# Altium integrated library Analog_Devices_Power_Management_Linear_Regulators.IntLib: 441 symbols (part 19 of 23)
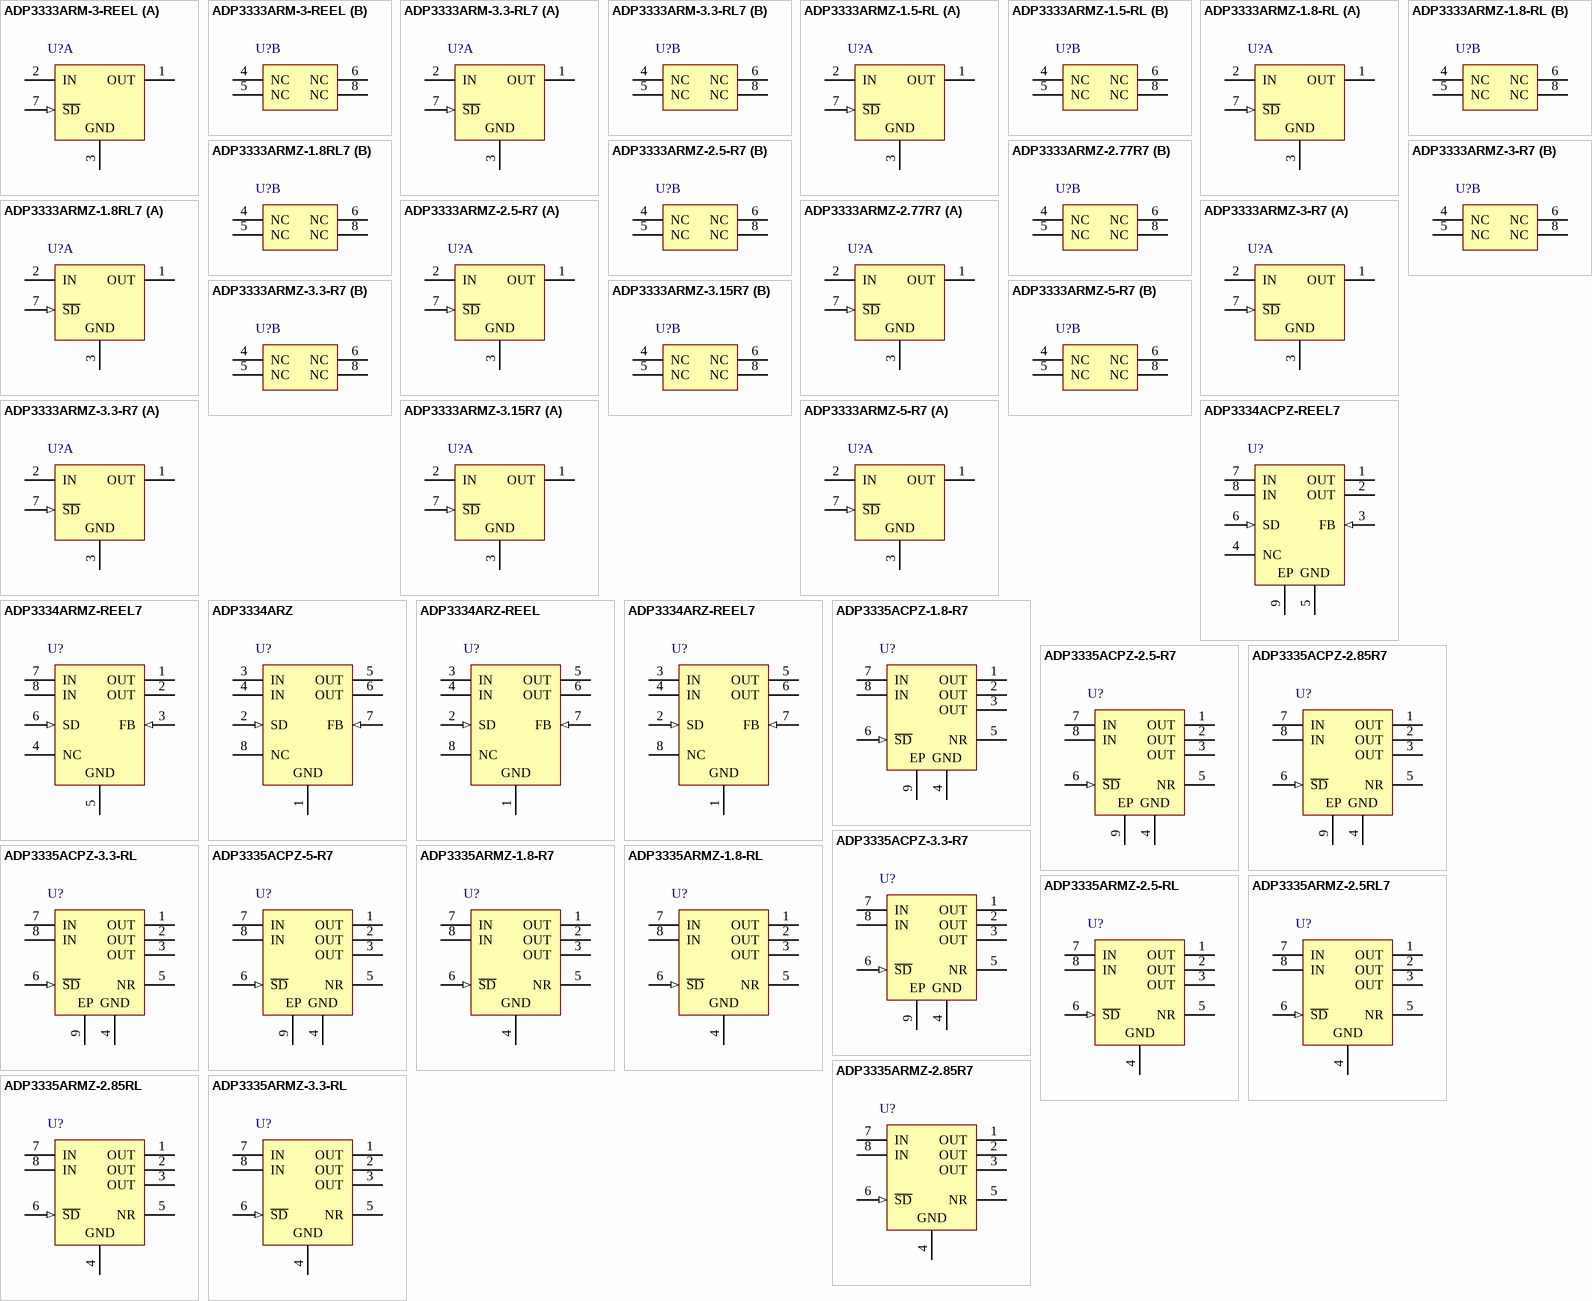
[diagram p29: symbols ADP3333ARM-3-REEL to ADP3335ARMZ-3.3-RL]

## ADP3333ARMZ-2.77R7
designator U?
High Accuracy Ultralow IQ, 300 mA, anyCAP Low Dropout Regulator, 2.6 to 12 V Vin, 2.77 V Vout, Industrial, 8-pin SOP (RM-8), Reel; Manufacturer: Analog Devices; PartNumber: ADP3333ARMZ-2.77R7; Iout max: 300mA; Preset Vout Values (V): 2.77; Supply Current IGND @ Small Load: 70uA; Vin (max) (V): 12; Vin (min) (V): 2.6; DatasheetVersion: Rev. B; PackageVersion: Aug-05; PackageReference: RM-8; PackageDescription: 8-Pin Mini Small Outline Package, Body 3 x 3 mm, Pitch 0.65 mm; Supplier 1: Digi-Key; Supplier Part Number 1: ADP3333ARMZ-2.77R7TR-ND; Supplier 2: Digi-Key; Supplier Part Number 2: ADP3333ARMZ-2.77R7CT-ND; Supplier 3: Digi-Key; Supplier Part Number 3: ADP3333ARMZ-2.77R7DKR-ND; Supplier 4: Mouser; Supplier Part Number 4: 584-AP3333ARMZ2.77R7; Packing: Reel; Mounting Technology: Surface Mount; Code_JEDEC: MO-187-AA; ComponentLink1Description: Manufacturer URL; ComponentLink1URL: http://www.analog.com/en/index.html; ComponentLink2Description: Datasheet; ComponentLink2URL: http://www.analog.com/static/imported-files/data_sheets/ADP3333.pdf; ComponentLink3Description: Package Specification; ComponentLink3URL: http://www.analog.com/static/imported-files/packages/PKG_PDF/MSOP%28RM%29/RM_8.pdf; ComponentLink4Description: URL Link1; ComponentLink4URL: Product URL:http://www.analog.com/en/ADP3333/productSearch.html
footprint ADI-RM-8_N (SOP, 8-Leads, Body 3x3mm, Pitch 0.65mm, IPC Medium Density)
footprint ADI-RM-8_L (SOP, 8-Leads, Body 3x3mm, Pitch 0.65mm, IPC High Density)
footprint ADI-RM-8_M (SOP, 8-Leads, Body 3x3mm, Pitch 0.65mm, IPC Low Density)
part A pins: 1 OUT (power) "Output of the Regulator. Bypass to ground with a 1.0 uF or larger capacitor.", 2 IN (power) "Input Pin. Bypass to ground with a 1.0 uF or larger capacitor.", 3 GND (power) "Ground Pin.", 7 ~{SD} (in) "Active Low Shutdown Pin. Connect to ground to disable the regulator output. When shutdown is not used, connect this pin to the IN pin."
part B pins: 4 NC "No Connect. Best thermal performance is achieved when the NC pins are connected to the GND plane.", 5 NC "No Connect. Best thermal performance is achieved when the NC pins are connected to the GND plane.", 6 NC "No Connect. Best thermal performance is achieved when the NC pins are connected to the GND plane.", 8 NC "No Connect. Best thermal performance is achieved when the NC pins are connected to the GND plane."

## ADP3333ARMZ-3-R7
designator U?
High Accuracy Ultralow IQ, 300 mA, anyCAP Low Dropout Regulator, 2.6 to 12 V Vin, 3 V Vout, Industrial, 8-pin SOP (RM-8), Reel; Manufacturer: Analog Devices; PartNumber: ADP3333ARMZ-3-R7; Iout max: 300mA; Preset Vout Values (V): 3; Supply Current IGND @ Small Load: 70uA; Vin (max) (V): 12; Vin (min) (V): 2.6; DatasheetVersion: Rev. B; PackageVersion: Aug-05; PackageReference: RM-8; PackageDescription: 8-Pin Mini Small Outline Package, Body 3 x 3 mm, Pitch 0.65 mm; Supplier 1: Mouser; Supplier Part Number 1: 584-ADP3333ARMZ-3-R7; Packing: Reel; Mounting Technology: Surface Mount; Code_JEDEC: MO-187-AA; ComponentLink1Description: Manufacturer URL; ComponentLink1URL: http://www.analog.com/en/index.html; ComponentLink2Description: Datasheet; ComponentLink2URL: http://www.analog.com/static/imported-files/data_sheets/ADP3333.pdf; ComponentLink3Description: Package Specification; ComponentLink3URL: http://www.analog.com/static/imported-files/packages/PKG_PDF/MSOP%28RM%29/RM_8.pdf; ComponentLink4Description: URL Link1; ComponentLink4URL: Product URL:http://www.analog.com/en/ADP3333/productSearch.html
footprint ADI-RM-8_N (SOP, 8-Leads, Body 3x3mm, Pitch 0.65mm, IPC Medium Density)
footprint ADI-RM-8_L (SOP, 8-Leads, Body 3x3mm, Pitch 0.65mm, IPC High Density)
footprint ADI-RM-8_M (SOP, 8-Leads, Body 3x3mm, Pitch 0.65mm, IPC Low Density)
part A pins: 1 OUT (power) "Output of the Regulator. Bypass to ground with a 1.0 uF or larger capacitor.", 2 IN (power) "Input Pin. Bypass to ground with a 1.0 uF or larger capacitor.", 3 GND (power) "Ground Pin.", 7 ~{SD} (in) "Active Low Shutdown Pin. Connect to ground to disable the regulator output. When shutdown is not used, connect this pin to the IN pin."
part B pins: 4 NC "No Connect. Best thermal performance is achieved when the NC pins are connected to the GND plane.", 5 NC "No Connect. Best thermal performance is achieved when the NC pins are connected to the GND plane.", 6 NC "No Connect. Best thermal performance is achieved when the NC pins are connected to the GND plane.", 8 NC "No Connect. Best thermal performance is achieved when the NC pins are connected to the GND plane."

## ADP3333ARMZ-3.3-R7
designator U?
High Accuracy Ultralow IQ, 300 mA, anyCAP Low Dropout Regulator, 2.6 to 12 V Vin, 3.3 V Vout, Industrial, 8-pin SOP (RM-8), Reel; Manufacturer: Analog Devices; PartNumber: ADP3333ARMZ-3.3-R7; Iout max: 300mA; Preset Vout Values (V): 3.3; Supply Current IGND @ Small Load: 70uA; Vin (max) (V): 12; Vin (min) (V): 2.6; DatasheetVersion: Rev. B; PackageVersion: Aug-05; PackageReference: RM-8; PackageDescription: 8-Pin Mini Small Outline Package, Body 3 x 3 mm, Pitch 0.65 mm; Supplier 1: Digi-Key; Supplier Part Number 1: ADP3333ARMZ-3.3-R7TR-ND; Supplier 2: Digi-Key; Supplier Part Number 2: ADP3333ARMZ-3.3-R7CT-ND; Supplier 3: Digi-Key; Supplier Part Number 3: ADP3333ARMZ-3.3-R7DKR-ND; Supplier 4: Farnell; Supplier Part Number 4: 2074872; Supplier 5: Farnell; Supplier Part Number 5: 2074872RL; Supplier 6: Newark; Supplier Part Number 6: 61M3992; Supplier 7: Newark; Supplier Part Number 7: 67W2712; Supplier 8: Mouser; Supplier Part Number 8: 584-ADP3333ARMZ3.3R7; Packing: Reel; Mounting Technology: Surface Mount; Code_JEDEC: MO-187-AA; ComponentLink1Description: Manufacturer URL; ComponentLink1URL: http://www.analog.com/en/index.html; ComponentLink2Description: Datasheet; ComponentLink2URL: http://www.analog.com/static/imported-files/data_sheets/ADP3333.pdf; ComponentLink3Description: Package Specification; ComponentLink3URL: http://www.analog.com/static/imported-files/packages/PKG_PDF/MSOP%28RM%29/RM_8.pdf; ComponentLink4Description: URL Link1; ComponentLink4URL: Product URL:http://www.analog.com/en/ADP3333/productSearch.html
footprint ADI-RM-8_N (SOP, 8-Leads, Body 3x3mm, Pitch 0.65mm, IPC Medium Density)
footprint ADI-RM-8_L (SOP, 8-Leads, Body 3x3mm, Pitch 0.65mm, IPC High Density)
footprint ADI-RM-8_M (SOP, 8-Leads, Body 3x3mm, Pitch 0.65mm, IPC Low Density)
part A pins: 1 OUT (power) "Output of the Regulator. Bypass to ground with a 1.0 uF or larger capacitor.", 2 IN (power) "Input Pin. Bypass to ground with a 1.0 uF or larger capacitor.", 3 GND (power) "Ground Pin.", 7 ~{SD} (in) "Active Low Shutdown Pin. Connect to ground to disable the regulator output. When shutdown is not used, connect this pin to the IN pin."
part B pins: 4 NC "No Connect. Best thermal performance is achieved when the NC pins are connected to the GND plane.", 5 NC "No Connect. Best thermal performance is achieved when the NC pins are connected to the GND plane.", 6 NC "No Connect. Best thermal performance is achieved when the NC pins are connected to the GND plane.", 8 NC "No Connect. Best thermal performance is achieved when the NC pins are connected to the GND plane."

## ADP3333ARMZ-3.15R7
designator U?
High Accuracy Ultralow IQ, 300 mA, anyCAP Low Dropout Regulator, 2.6 to 12 V Vin, 3.15 V Vout, Industrial, 8-pin SOP (RM-8), Reel; Manufacturer: Analog Devices; PartNumber: ADP3333ARMZ-3.15R7; Iout max: 300mA; Preset Vout Values (V): 3.15; Supply Current IGND @ Small Load: 70uA; Vin (max) (V): 12; Vin (min) (V): 2.6; DatasheetVersion: Rev. B; PackageVersion: Aug-05; PackageReference: RM-8; PackageDescription: 8-Pin Mini Small Outline Package, Body 3 x 3 mm, Pitch 0.65 mm; Supplier 1: Digi-Key; Supplier Part Number 1: ADP3333ARMZ-3.15R7TR-ND; Supplier 2: Digi-Key; Supplier Part Number 2: ADP3333ARMZ-3.15R7CT-ND; Supplier 3: Digi-Key; Supplier Part Number 3: ADP3333ARMZ-3.15R7DKR-ND; Supplier 4: Mouser; Supplier Part Number 4: 584-AP3333ARMZ3.15R7; Packing: Reel; Mounting Technology: Surface Mount; Code_JEDEC: MO-187-AA; ComponentLink1Description: Manufacturer URL; ComponentLink1URL: http://www.analog.com/en/index.html; ComponentLink2Description: Datasheet; ComponentLink2URL: http://www.analog.com/static/imported-files/data_sheets/ADP3333.pdf; ComponentLink3Description: Package Specification; ComponentLink3URL: http://www.analog.com/static/imported-files/packages/PKG_PDF/MSOP%28RM%29/RM_8.pdf; ComponentLink4Description: URL Link1; ComponentLink4URL: Product URL:http://www.analog.com/en/ADP3333/productSearch.html
footprint ADI-RM-8_N (SOP, 8-Leads, Body 3x3mm, Pitch 0.65mm, IPC Medium Density)
footprint ADI-RM-8_L (SOP, 8-Leads, Body 3x3mm, Pitch 0.65mm, IPC High Density)
footprint ADI-RM-8_M (SOP, 8-Leads, Body 3x3mm, Pitch 0.65mm, IPC Low Density)
part A pins: 1 OUT (power) "Output of the Regulator. Bypass to ground with a 1.0 uF or larger capacitor.", 2 IN (power) "Input Pin. Bypass to ground with a 1.0 uF or larger capacitor.", 3 GND (power) "Ground Pin.", 7 ~{SD} (in) "Active Low Shutdown Pin. Connect to ground to disable the regulator output. When shutdown is not used, connect this pin to the IN pin."
part B pins: 4 NC "No Connect. Best thermal performance is achieved when the NC pins are connected to the GND plane.", 5 NC "No Connect. Best thermal performance is achieved when the NC pins are connected to the GND plane.", 6 NC "No Connect. Best thermal performance is achieved when the NC pins are connected to the GND plane.", 8 NC "No Connect. Best thermal performance is achieved when the NC pins are connected to the GND plane."

## ADP3333ARMZ-5-R7
designator U?
High Accuracy Ultralow IQ, 300 mA, anyCAP Low Dropout Regulator, 2.6 to 12 V Vin, 5 V Vout, Industrial, 8-pin SOP (RM-8), Reel; Manufacturer: Analog Devices; PartNumber: ADP3333ARMZ-5-R7; Iout max: 300mA; Preset Vout Values (V): 5; Supply Current IGND @ Small Load: 70uA; Vin (max) (V): 12; Vin (min) (V): 2.6; DatasheetVersion: Rev. B; PackageVersion: Aug-05; PackageReference: RM-8; PackageDescription: 8-Pin Mini Small Outline Package, Body 3 x 3 mm, Pitch 0.65 mm; Supplier 1: Digi-Key; Supplier Part Number 1: ADP3333ARMZ-5-R7TR-ND; Supplier 2: Digi-Key; Supplier Part Number 2: ADP3333ARMZ-5-R7CT-ND; Supplier 3: Digi-Key; Supplier Part Number 3: ADP3333ARMZ-5-R7DKR-ND; Supplier 4: Farnell; Supplier Part Number 4: 2376930; Supplier 5: Farnell; Supplier Part Number 5: 2312898; Supplier 6: Newark; Supplier Part Number 6: 61M3994; Supplier 7: Newark; Supplier Part Number 7: 67W2713; Supplier 8: Mouser; Supplier Part Number 8: 584-ADP3333ARMZ-5-R7; Packing: Reel; Mounting Technology: Surface Mount; Code_JEDEC: MO-187-AA; ComponentLink1Description: Manufacturer URL; ComponentLink1URL: http://www.analog.com/en/index.html; ComponentLink2Description: Datasheet; ComponentLink2URL: http://www.analog.com/static/imported-files/data_sheets/ADP3333.pdf; ComponentLink3Description: Package Specification; ComponentLink3URL: http://www.analog.com/static/imported-files/packages/PKG_PDF/MSOP%28RM%29/RM_8.pdf; ComponentLink4Description: URL Link1; ComponentLink4URL: Product URL:http://www.analog.com/en/ADP3333/productSearch.html
footprint ADI-RM-8_N (SOP, 8-Leads, Body 3x3mm, Pitch 0.65mm, IPC Medium Density)
footprint ADI-RM-8_L (SOP, 8-Leads, Body 3x3mm, Pitch 0.65mm, IPC High Density)
footprint ADI-RM-8_M (SOP, 8-Leads, Body 3x3mm, Pitch 0.65mm, IPC Low Density)
part A pins: 1 OUT (power) "Output of the Regulator. Bypass to ground with a 1.0 uF or larger capacitor.", 2 IN (power) "Input Pin. Bypass to ground with a 1.0 uF or larger capacitor.", 3 GND (power) "Ground Pin.", 7 ~{SD} (in) "Active Low Shutdown Pin. Connect to ground to disable the regulator output. When shutdown is not used, connect this pin to the IN pin."
part B pins: 4 NC "No Connect. Best thermal performance is achieved when the NC pins are connected to the GND plane.", 5 NC "No Connect. Best thermal performance is achieved when the NC pins are connected to the GND plane.", 6 NC "No Connect. Best thermal performance is achieved when the NC pins are connected to the GND plane.", 8 NC "No Connect. Best thermal performance is achieved when the NC pins are connected to the GND plane."

## ADP3334ACPZ-REEL7
designator U?
High Accuracy, Low IQ, anyCAP Adjustable Low Dropout Regulator, 2.6 to 11 V Vin, 1.5 to 10 V Vout, Industrial, 8-pin QFN (CP-8-2), Reel; Manufacturer: Analog Devices; PartNumber: ADP3334ACPZ-REEL7; Iout max: 500mA; Supply Current IGND @ Small Load: 90uA; Vin (max) (V): 11; Vin (min) (V): 2.6; Vout Adjustable Range: 1.5 V to 10 V; DatasheetVersion: Rev. B; PackageVersion: 061507-B, 06/2007; PackageReference: CP-8-2; PackageDescription: 8-Pin Lead Frame Chip Scale Package, Body 3 x 3 mm, Pitch 0.5 mm; Supplier 1: Digi-Key; Supplier Part Number 1: ADP3334ACPZ-REEL7TR-ND; Supplier 2: Digi-Key; Supplier Part Number 2: ADP3334ACPZ-REEL7CT-ND; Supplier 3: Digi-Key; Supplier Part Number 3: ADP3334ACPZ-REEL7DKR-ND; Supplier 4: Farnell; Supplier Part Number 4: 2376931; Supplier 5: Farnell; Supplier Part Number 5: 2370357; Supplier 6: Farnell; Supplier Part Number 6: 2312899; Supplier 7: Newark; Supplier Part Number 7: 59K2598; Supplier 8: Newark; Supplier Part Number 8: 67W2714; Supplier 9: Mouser; Supplier Part Number 9: 584-ADP3334ACPZ-R7; Packing: Reel; Mounting Technology: Surface Mount; ComponentLink1Description: Manufacturer URL; ComponentLink1URL: http://www.analog.com/en/index.html; ComponentLink2Description: Datasheet; ComponentLink2URL: http://www.analog.com/static/imported-files/data_sheets/ADP3334.pdf; ComponentLink3Description: Package Specification; ComponentLink3URL: http://www.analog.com/static/imported-files/packages/56953322593982CP_8_2.pdf; ComponentLink4Description: URL Link1; ComponentLink4URL: Product URL:http://www.analog.com/en/ADP3334/productSearch.html
footprint ADI-CP-8-2_N (QFN, 8-Leads, Body 3x3mm, Pitch 0.5mm, Thermal Pad 1.45X1.74mm, IPC Medium Density)
footprint ADI-CP-8-2_L (QFN, 8-Leads, Body 3x3mm, Pitch 0.5mm, Thermal Pad 1.45X1.74mm, IPC High Density)
footprint ADI-CP-8-2_M (QFN, 8-Leads, Body 3x3mm, Pitch 0.5mm, Thermal Pad 1.45X1.74mm, IPC Low Density)
pins: 1 OUT (power) "Output. Bypass to ground with a 1.0 uF or larger capacitor.", 2 OUT (power) "Output. Bypass to ground with a 1.0 uF or larger capacitor.", 3 FB (in) "Feedback Input. FB should be connected to an external resistor divider that sets the output voltage.", 4 NC "No Connection.", 5 GND (power) "Ground Pin.", 6 SD (in) "Shutdown Control. Pulling this pin low turns on the regulator.", 7 IN (power) "Regulator Input.", 8 IN (power) "Regulator Input.", 9 EP "Exposed Pad."

## ADP3334ARMZ-REEL7
designator U?
High Accuracy, Low IQ, anyCAP Adjustable Low Dropout Regulator, 2.6 to 11 V Vin, 1.5 to 10 V Vout, Industrial, 8-pin SOP (RM-8), Reel; Manufacturer: Analog Devices; PartNumber: ADP3334ARMZ-REEL7; Iout max: 500mA; Supply Current IGND @ Small Load: 90uA; Vin (max) (V): 11; Vin (min) (V): 2.6; Vout Adjustable Range: 1.5 V to 10 V; DatasheetVersion: Rev. B; PackageVersion: Aug-05; PackageReference: RM-8; PackageDescription: 8-Pin Mini Small Outline Package, Body 3 x 3 mm, Pitch 0.65 mm; Supplier 1: Digi-Key; Supplier Part Number 1: ADP3334ARMZ-REEL7TR-ND; Supplier 2: Digi-Key; Supplier Part Number 2: ADP3334ARMZ-REEL7CT-ND; Supplier 3: Digi-Key; Supplier Part Number 3: ADP3334ARMZ-REEL7DKR-ND; Supplier 4: Newark; Supplier Part Number 4: 59K2599; Supplier 5: Mouser; Supplier Part Number 5: 584-ADP3334ARMZ-R7; Packing: Reel; Mounting Technology: Surface Mount; Code_JEDEC: MO-187-AA; ComponentLink1Description: Manufacturer URL; ComponentLink1URL: http://www.analog.com/en/index.html; ComponentLink2Description: Datasheet; ComponentLink2URL: http://www.analog.com/static/imported-files/data_sheets/ADP3334.pdf; ComponentLink3Description: Package Specification; ComponentLink3URL: http://www.analog.com/static/imported-files/packages/PKG_PDF/MSOP%28RM%29/RM_8.pdf; ComponentLink4Description: URL Link1; ComponentLink4URL: Product URL:http://www.analog.com/en/ADP3334/productSearch.html
footprint ADI-RM-8_N (SOP, 8-Leads, Body 3x3mm, Pitch 0.65mm, IPC Medium Density)
footprint ADI-RM-8_L (SOP, 8-Leads, Body 3x3mm, Pitch 0.65mm, IPC High Density)
footprint ADI-RM-8_M (SOP, 8-Leads, Body 3x3mm, Pitch 0.65mm, IPC Low Density)
pins: 1 OUT (power) "Output. Bypass to ground with a 1.0 uF or larger capacitor.", 2 OUT (power) "Output. Bypass to ground with a 1.0 uF or larger capacitor.", 3 FB (in) "Feedback Input. FB should be connected to an external resistor divider that sets the output voltage.", 4 NC "No Connection.", 5 GND (power) "Ground Pin.", 6 SD (in) "Shutdown Control. Pulling this pin low turns on the regulator.", 7 IN (power) "Regulator Input.", 8 IN (power) "Regulator Input."

## ADP3334ARZ
designator U?
High Accuracy, Low IQ, anyCAP Adjustable Low Dropout Regulator, 2.6 to 11 V Vin, 1.5 to 10 V Vout, Industrial, 8-pin SOIC (R-8), Tube; Manufacturer: Analog Devices; PartNumber: ADP3334ARZ; Iout max: 500mA; Supply Current IGND @ Small Load: 90uA; Vin (max) (V): 11; Vin (min) (V): 2.6; Vout Adjustable Range: 1.5 V to 10 V; DatasheetVersion: Rev. B; PackageVersion: 060506-A, 06/2006; PackageReference: R-8; PackageDescription: 8-Pin Standard Small Outline Package, Body 4.9 x 3.9 mm, Pitch 1.27 mm; Supplier 1: Digi-Key; Supplier Part Number 1: ADP3334ARZ-ND; Supplier 2: Farnell; Supplier Part Number 2: 1661069; Supplier 3: Newark; Supplier Part Number 3: 19M8718; Supplier 4: Mouser; Supplier Part Number 4: 584-ADP3334ARZ; Packing: Tube; Mounting Technology: Surface Mount; Code_JEDEC: MS-012-AA; ComponentLink1Description: Manufacturer URL; ComponentLink1URL: http://www.analog.com/en/index.html; ComponentLink2Description: Datasheet; ComponentLink2URL: http://www.analog.com/static/imported-files/data_sheets/ADP3334.pdf; ComponentLink3Description: Package Specification; ComponentLink3URL: http://www.analog.com/static/imported-files/packages/PKG_PDF/SOIC_Narrow%20(R)/R_8.pdf; ComponentLink4Description: URL Link1; ComponentLink4URL: Product URL:http://www.analog.com/en/ADP3334/productSearch.html
footprint ADI-R-8_N (SOIC, 8-Leads, Body 4.9x3.9mm, Pitch 1.27mm, IPC Medium Density)
footprint ADI-R-8_L (SOIC, 8-Leads, Body 4.9x3.9mm, Pitch 1.27mm, IPC High Density)
footprint ADI-R-8_M (SOIC, 8-Leads, Body 4.9x3.9mm, Pitch 1.27mm, IPC Low Density)
pins: 1 GND (power) "Ground Pin.", 2 SD (in) "Shutdown Control. Pulling this pin low turns on the regulator.", 3 IN (power) "Regulator Input.", 4 IN (power) "Regulator Input.", 5 OUT (power) "Output. Bypass to ground with a 1.0 uF or larger capacitor.", 6 OUT (power) "Output. Bypass to ground with a 1.0 uF or larger capacitor.", 7 FB (in) "Feedback Input. FB should be connected to an external resistor divider that sets the output voltage.", 8 NC "No Connection."

## ADP3334ARZ-REEL
designator U?
High Accuracy, Low IQ, anyCAP Adjustable Low Dropout Regulator, 2.6 to 11 V Vin, 1.5 to 10 V Vout, Industrial, 8-pin SOIC (R-8), Reel; Manufacturer: Analog Devices; PartNumber: ADP3334ARZ-REEL; Iout max: 500mA; Supply Current IGND @ Small Load: 90uA; Vin (max) (V): 11; Vin (min) (V): 2.6; Vout Adjustable Range: 1.5 V to 10 V; DatasheetVersion: Rev. B; PackageVersion: 060506-A, 06/2006; PackageReference: R-8; PackageDescription: 8-Pin Standard Small Outline Package, Body 4.9 x 3.9 mm, Pitch 1.27 mm; Supplier 1: Digi-Key; Supplier Part Number 1: ADP3334ARZ-REELTR-ND; Supplier 2: Digi-Key; Supplier Part Number 2: ADP3334ARZ-REELCT-ND; Supplier 3: Digi-Key; Supplier Part Number 3: ADP3334ARZ-REELDKR-ND; Supplier 4: Newark; Supplier Part Number 4: 59K2601; Supplier 5: Mouser; Supplier Part Number 5: 584-ADP3334ARZ-R; Packing: Reel; Mounting Technology: Surface Mount; Code_JEDEC: MS-012-AA; ComponentLink1Description: Manufacturer URL; ComponentLink1URL: http://www.analog.com/en/index.html; ComponentLink2Description: Datasheet; ComponentLink2URL: http://www.analog.com/static/imported-files/data_sheets/ADP3334.pdf; ComponentLink3Description: Package Specification; ComponentLink3URL: http://www.analog.com/static/imported-files/packages/PKG_PDF/SOIC_Narrow%20(R)/R_8.pdf; ComponentLink4Description: URL Link1; ComponentLink4URL: Product URL:http://www.analog.com/en/ADP3334/productSearch.html
footprint ADI-R-8_N (SOIC, 8-Leads, Body 4.9x3.9mm, Pitch 1.27mm, IPC Medium Density)
footprint ADI-R-8_L (SOIC, 8-Leads, Body 4.9x3.9mm, Pitch 1.27mm, IPC High Density)
footprint ADI-R-8_M (SOIC, 8-Leads, Body 4.9x3.9mm, Pitch 1.27mm, IPC Low Density)
pins: 1 GND (power) "Ground Pin.", 2 SD (in) "Shutdown Control. Pulling this pin low turns on the regulator.", 3 IN (power) "Regulator Input.", 4 IN (power) "Regulator Input.", 5 OUT (power) "Output. Bypass to ground with a 1.0 uF or larger capacitor.", 6 OUT (power) "Output. Bypass to ground with a 1.0 uF or larger capacitor.", 7 FB (in) "Feedback Input. FB should be connected to an external resistor divider that sets the output voltage.", 8 NC "No Connection."

## ADP3334ARZ-REEL7
designator U?
High Accuracy, Low IQ, anyCAP Adjustable Low Dropout Regulator, 2.6 to 11 V Vin, 1.5 to 10 V Vout, Industrial, 8-pin SOIC (R-8), Reel; Manufacturer: Analog Devices; PartNumber: ADP3334ARZ-REEL7; Iout max: 500mA; Supply Current IGND @ Small Load: 90uA; Vin (max) (V): 11; Vin (min) (V): 2.6; Vout Adjustable Range: 1.5 V to 10 V; DatasheetVersion: Rev. B; PackageVersion: 060506-A, 06/2006; PackageReference: R-8; PackageDescription: 8-Pin Standard Small Outline Package, Body 4.9 x 3.9 mm, Pitch 1.27 mm; Supplier 1: Digi-Key; Supplier Part Number 1: ADP3334ARZ-REEL7TR-ND; Supplier 2: Digi-Key; Supplier Part Number 2: ADP3334ARZ-REEL7CT-ND; Supplier 3: Digi-Key; Supplier Part Number 3: ADP3334ARZ-REEL7DKR-ND; Supplier 4: Newark; Supplier Part Number 4: 59K2602; Supplier 5: Mouser; Supplier Part Number 5: 584-ADP3334ARZ-R7; Packing: Reel; Mounting Technology: Surface Mount; Code_JEDEC: MS-012-AA; ComponentLink1Description: Manufacturer URL; ComponentLink1URL: http://www.analog.com/en/index.html; ComponentLink2Description: Datasheet; ComponentLink2URL: http://www.analog.com/static/imported-files/data_sheets/ADP3334.pdf; ComponentLink3Description: Package Specification; ComponentLink3URL: http://www.analog.com/static/imported-files/packages/PKG_PDF/SOIC_Narrow%20(R)/R_8.pdf; ComponentLink4Description: URL Link1; ComponentLink4URL: Product URL:http://www.analog.com/en/ADP3334/productSearch.html
footprint ADI-R-8_N (SOIC, 8-Leads, Body 4.9x3.9mm, Pitch 1.27mm, IPC Medium Density)
footprint ADI-R-8_L (SOIC, 8-Leads, Body 4.9x3.9mm, Pitch 1.27mm, IPC High Density)
footprint ADI-R-8_M (SOIC, 8-Leads, Body 4.9x3.9mm, Pitch 1.27mm, IPC Low Density)
pins: 1 GND (power) "Ground Pin.", 2 SD (in) "Shutdown Control. Pulling this pin low turns on the regulator.", 3 IN (power) "Regulator Input.", 4 IN (power) "Regulator Input.", 5 OUT (power) "Output. Bypass to ground with a 1.0 uF or larger capacitor.", 6 OUT (power) "Output. Bypass to ground with a 1.0 uF or larger capacitor.", 7 FB (in) "Feedback Input. FB should be connected to an external resistor divider that sets the output voltage.", 8 NC "No Connection."

## ADP3335ACPZ-1.8-R7
designator U?
High Accuracy, Ultralow IQ, 500 mA, anyCAP Low Dropout Regulator, 2.6 to 12 V Vin, 1.8 V Vout, Industrial, 8-pin QFN (CP-8-2), Reel; Manufacturer: Analog Devices; PartNumber: ADP3335ACPZ-1.8-R7; Iout max: 500mA; Preset Vout Values (V): 1.8; Supply Current IGND @ Small Load: 80uA; Vin (max) (V): 12; Vin (min) (V): 2.6; DatasheetVersion: Rev. C; PackageVersion: 061507-B, 06/2007; PackageReference: CP-8-2; PackageDescription: 8-Pin Lead Frame Chip Scale Package, Body 3 x 3 mm, Pitch 0.5 mm; Supplier 1: Digi-Key; Supplier Part Number 1: ADP3335ACPZ-1.8-R7TR-ND; Supplier 2: Digi-Key; Supplier Part Number 2: ADP3335ACPZ-1.8-R7CT-ND; Supplier 3: Digi-Key; Supplier Part Number 3: ADP3335ACPZ-1.8-R7DKR-ND; Supplier 4: Newark; Supplier Part Number 4: 61M3995; Supplier 5: Mouser; Supplier Part Number 5: 584-ADP3335ACPZ1.8R7; Packing: Reel; Mounting Technology: Surface Mount; ComponentLink1Description: Manufacturer URL; ComponentLink1URL: http://www.analog.com/en/index.html; ComponentLink2Description: Datasheet; ComponentLink2URL: http://www.analog.com/static/imported-files/data_sheets/ADP3335.pdf; ComponentLink3Description: Package Specification; ComponentLink3URL: http://www.analog.com/static/imported-files/packages/56953322593982CP_8_2.pdf; ComponentLink4Description: URL Link1; ComponentLink4URL: Product URL:http://www.analog.com/en/ADP3335/productSearch.html
footprint ADI-CP-8-2_N (QFN, 8-Leads, Body 3x3mm, Pitch 0.5mm, Thermal Pad 1.45X1.74mm, IPC Medium Density)
footprint ADI-CP-8-2_L (QFN, 8-Leads, Body 3x3mm, Pitch 0.5mm, Thermal Pad 1.45X1.74mm, IPC High Density)
footprint ADI-CP-8-2_M (QFN, 8-Leads, Body 3x3mm, Pitch 0.5mm, Thermal Pad 1.45X1.74mm, IPC Low Density)
pins: 1 OUT (power) "Output of the Regulator. Bypass to ground with a 1.0 uF or larger capacitor. All pins must be connected together for proper operation.", 2 OUT (power) "Output of the Regulator. Bypass to ground with a 1.0 uF or larger capacitor. All pins must be connected together for proper operation.", 3 OUT (power) "Output of the Regulator. Bypass to ground with a 1.0 uF or larger capacitor. All pins must be connected together for proper operation.", 4 GND (power) "Ground Pin.", 5 NR "Noise Reduction Pin. Used for further reduction of output noise (see the Noise Reduction section for further details).", 6 ~{SD} (in) "Active Low Shutdown Pin. Connect to ground to disable the regulator output. When shutdown is not used, this pin should be connected to the input pin.", 7 IN (power) "Regulator Input. All pins must be connected together for proper operation.", 8 IN (power) "Regulator Input. All pins must be connected together for proper operation.", 9 EP "The exposed pad on the bottom of the LFCSP package enhances thermal performance and is electrically connected to the die substrate, which is electrically common with the input pins, IN (Pin 7 and Pin 8), inside the package."

## ADP3335ACPZ-2.5-R7
designator U?
High Accuracy, Ultralow IQ, 500 mA, anyCAP Low Dropout Regulator, 2.6 to 12 V Vin, 2.5 V Vout, Industrial, 8-pin QFN (CP-8-2), Reel; Manufacturer: Analog Devices; PartNumber: ADP3335ACPZ-2.5-R7; Iout max: 500mA; Preset Vout Values (V): 2.5; Supply Current IGND @ Small Load: 80uA; Vin (max) (V): 12; Vin (min) (V): 2.6; DatasheetVersion: Rev. C; PackageVersion: 061507-B, 06/2007; PackageReference: CP-8-2; PackageDescription: 8-Pin Lead Frame Chip Scale Package, Body 3 x 3 mm, Pitch 0.5 mm; Supplier 1: Digi-Key; Supplier Part Number 1: ADP3335ACPZ-2.5-R7TR-ND; Supplier 2: Digi-Key; Supplier Part Number 2: ADP3335ACPZ-2.5-R7CT-ND; Supplier 3: Digi-Key; Supplier Part Number 3: ADP3335ACPZ-2.5-R7DKR-ND; Supplier 4: Newark; Supplier Part Number 4: 61M3996; Supplier 5: Mouser; Supplier Part Number 5: 584-ADP3335ACPZ2.5R7; Packing: Reel; Mounting Technology: Surface Mount; ComponentLink1Description: Manufacturer URL; ComponentLink1URL: http://www.analog.com/en/index.html; ComponentLink2Description: Datasheet; ComponentLink2URL: http://www.analog.com/static/imported-files/data_sheets/ADP3335.pdf; ComponentLink3Description: Package Specification; ComponentLink3URL: http://www.analog.com/static/imported-files/packages/56953322593982CP_8_2.pdf; ComponentLink4Description: URL Link1; ComponentLink4URL: Product URL:http://www.analog.com/en/ADP3335/productSearch.html
footprint ADI-CP-8-2_N (QFN, 8-Leads, Body 3x3mm, Pitch 0.5mm, Thermal Pad 1.45X1.74mm, IPC Medium Density)
footprint ADI-CP-8-2_L (QFN, 8-Leads, Body 3x3mm, Pitch 0.5mm, Thermal Pad 1.45X1.74mm, IPC High Density)
footprint ADI-CP-8-2_M (QFN, 8-Leads, Body 3x3mm, Pitch 0.5mm, Thermal Pad 1.45X1.74mm, IPC Low Density)
pins: 1 OUT (power) "Output of the Regulator. Bypass to ground with a 1.0 uF or larger capacitor. All pins must be connected together for proper operation.", 2 OUT (power) "Output of the Regulator. Bypass to ground with a 1.0 uF or larger capacitor. All pins must be connected together for proper operation.", 3 OUT (power) "Output of the Regulator. Bypass to ground with a 1.0 uF or larger capacitor. All pins must be connected together for proper operation.", 4 GND (power) "Ground Pin.", 5 NR "Noise Reduction Pin. Used for further reduction of output noise (see the Noise Reduction section for further details).", 6 ~{SD} (in) "Active Low Shutdown Pin. Connect to ground to disable the regulator output. When shutdown is not used, this pin should be connected to the input pin.", 7 IN (power) "Regulator Input. All pins must be connected together for proper operation.", 8 IN (power) "Regulator Input. All pins must be connected together for proper operation.", 9 EP "The exposed pad on the bottom of the LFCSP package enhances thermal performance and is electrically connected to the die substrate, which is electrically common with the input pins, IN (Pin 7 and Pin 8), inside the package."

## ADP3335ACPZ-2.85R7
designator U?
High Accuracy, Ultralow IQ, 500 mA, anyCAP Low Dropout Regulator, 2.6 to 12 V Vin, 2.85 V Vout, Industrial, 8-pin QFN (CP-8-2), Reel; Manufacturer: Analog Devices; PartNumber: ADP3335ACPZ-2.85R7; Iout max: 500mA; Preset Vout Values (V): 2.85; Supply Current IGND @ Small Load: 80uA; Vin (max) (V): 12; Vin (min) (V): 2.6; DatasheetVersion: Rev. C; PackageVersion: 061507-B, 06/2007; PackageReference: CP-8-2; PackageDescription: 8-Pin Lead Frame Chip Scale Package, Body 3 x 3 mm, Pitch 0.5 mm; Supplier 1: Digi-Key; Supplier Part Number 1: ADP3335ACPZ-2.85R7TR-ND; Supplier 2: Digi-Key; Supplier Part Number 2: ADP3335ACPZ-2.85R7CT-ND; Supplier 3: Digi-Key; Supplier Part Number 3: ADP3335ACPZ-2.85R7DKR-ND; Supplier 4: Mouser; Supplier Part Number 4: 584-AP3335ACPZ2.85R7; Packing: Reel; Mounting Technology: Surface Mount; ComponentLink1Description: Manufacturer URL; ComponentLink1URL: http://www.analog.com/en/index.html; ComponentLink2Description: Datasheet; ComponentLink2URL: http://www.analog.com/static/imported-files/data_sheets/ADP3335.pdf; ComponentLink3Description: Package Specification; ComponentLink3URL: http://www.analog.com/static/imported-files/packages/56953322593982CP_8_2.pdf; ComponentLink4Description: URL Link1; ComponentLink4URL: Product URL:http://www.analog.com/en/ADP3335/productSearch.html
footprint ADI-CP-8-2_N (QFN, 8-Leads, Body 3x3mm, Pitch 0.5mm, Thermal Pad 1.45X1.74mm, IPC Medium Density)
footprint ADI-CP-8-2_L (QFN, 8-Leads, Body 3x3mm, Pitch 0.5mm, Thermal Pad 1.45X1.74mm, IPC High Density)
footprint ADI-CP-8-2_M (QFN, 8-Leads, Body 3x3mm, Pitch 0.5mm, Thermal Pad 1.45X1.74mm, IPC Low Density)
pins: 1 OUT (power) "Output of the Regulator. Bypass to ground with a 1.0 uF or larger capacitor. All pins must be connected together for proper operation.", 2 OUT (power) "Output of the Regulator. Bypass to ground with a 1.0 uF or larger capacitor. All pins must be connected together for proper operation.", 3 OUT (power) "Output of the Regulator. Bypass to ground with a 1.0 uF or larger capacitor. All pins must be connected together for proper operation.", 4 GND (power) "Ground Pin.", 5 NR "Noise Reduction Pin. Used for further reduction of output noise (see the Noise Reduction section for further details).", 6 ~{SD} (in) "Active Low Shutdown Pin. Connect to ground to disable the regulator output. When shutdown is not used, this pin should be connected to the input pin.", 7 IN (power) "Regulator Input. All pins must be connected together for proper operation.", 8 IN (power) "Regulator Input. All pins must be connected together for proper operation.", 9 EP "The exposed pad on the bottom of the LFCSP package enhances thermal performance and is electrically connected to the die substrate, which is electrically common with the input pins, IN (Pin 7 and Pin 8), inside the package."

## ADP3335ACPZ-3.3-R7
designator U?
High Accuracy, Ultralow IQ, 500 mA, anyCAP Low Dropout Regulator, 2.6 to 12 V Vin, 3.3 V Vout, Industrial, 8-pin QFN (CP-8-2), Reel; Manufacturer: Analog Devices; PartNumber: ADP3335ACPZ-3.3-R7; Iout max: 500mA; Preset Vout Values (V): 3.3; Supply Current IGND @ Small Load: 80uA; Vin (max) (V): 12; Vin (min) (V): 2.6; DatasheetVersion: Rev. C; PackageVersion: 061507-B, 06/2007; PackageReference: CP-8-2; PackageDescription: 8-Pin Lead Frame Chip Scale Package, Body 3 x 3 mm, Pitch 0.5 mm; Supplier 1: Digi-Key; Supplier Part Number 1: ADP3335ACPZ-3.3-R7TR-ND; Supplier 2: Digi-Key; Supplier Part Number 2: ADP3335ACPZ-3.3-R7CT-ND; Supplier 3: Digi-Key; Supplier Part Number 3: ADP3335ACPZ-3.3-R7DKR-ND; Supplier 4: Farnell; Supplier Part Number 4: 2312900; Supplier 5: Newark; Supplier Part Number 5: 34M4856; Supplier 6: Newark; Supplier Part Number 6: 67W2715; Supplier 7: Mouser; Supplier Part Number 7: 584-ADP3335ACPZ3.3R7; Packing: Reel; Mounting Technology: Surface Mount; ComponentLink1Description: Manufacturer URL; ComponentLink1URL: http://www.analog.com/en/index.html; ComponentLink2Description: Datasheet; ComponentLink2URL: http://www.analog.com/static/imported-files/data_sheets/ADP3335.pdf; ComponentLink3Description: Package Specification; ComponentLink3URL: http://www.analog.com/static/imported-files/packages/56953322593982CP_8_2.pdf; ComponentLink4Description: URL Link1; ComponentLink4URL: Product URL:http://www.analog.com/en/ADP3335/productSearch.html
footprint ADI-CP-8-2_N (QFN, 8-Leads, Body 3x3mm, Pitch 0.5mm, Thermal Pad 1.45X1.74mm, IPC Medium Density)
footprint ADI-CP-8-2_L (QFN, 8-Leads, Body 3x3mm, Pitch 0.5mm, Thermal Pad 1.45X1.74mm, IPC High Density)
footprint ADI-CP-8-2_M (QFN, 8-Leads, Body 3x3mm, Pitch 0.5mm, Thermal Pad 1.45X1.74mm, IPC Low Density)
pins: 1 OUT (power) "Output of the Regulator. Bypass to ground with a 1.0 uF or larger capacitor. All pins must be connected together for proper operation.", 2 OUT (power) "Output of the Regulator. Bypass to ground with a 1.0 uF or larger capacitor. All pins must be connected together for proper operation.", 3 OUT (power) "Output of the Regulator. Bypass to ground with a 1.0 uF or larger capacitor. All pins must be connected together for proper operation.", 4 GND (power) "Ground Pin.", 5 NR "Noise Reduction Pin. Used for further reduction of output noise (see the Noise Reduction section for further details).", 6 ~{SD} (in) "Active Low Shutdown Pin. Connect to ground to disable the regulator output. When shutdown is not used, this pin should be connected to the input pin.", 7 IN (power) "Regulator Input. All pins must be connected together for proper operation.", 8 IN (power) "Regulator Input. All pins must be connected together for proper operation.", 9 EP "The exposed pad on the bottom of the LFCSP package enhances thermal performance and is electrically connected to the die substrate, which is electrically common with the input pins, IN (Pin 7 and Pin 8), inside the package."

## ADP3335ACPZ-3.3-RL
designator U?
High Accuracy, Ultralow IQ, 500 mA, anyCAP Low Dropout Regulator, 2.6 to 12 V Vin, 3.3 V Vout, Industrial, 8-pin QFN (CP-8-2), Reel; Manufacturer: Analog Devices; PartNumber: ADP3335ACPZ-3.3-RL; Iout max: 500mA; Preset Vout Values (V): 3.3; Supply Current IGND @ Small Load: 80uA; Vin (max) (V): 12; Vin (min) (V): 2.6; DatasheetVersion: Rev. C; PackageVersion: 061507-B, 06/2007; PackageReference: CP-8-2; PackageDescription: 8-Pin Lead Frame Chip Scale Package, Body 3 x 3 mm, Pitch 0.5 mm; Supplier 1: Digi-Key; Supplier Part Number 1: ADP3335ACPZ-3.3-RLTR-ND; Supplier 2: Digi-Key; Supplier Part Number 2: ADP3335ACPZ-3.3-RLCT-ND; Supplier 3: Digi-Key; Supplier Part Number 3: ADP3335ACPZ-3.3-RLDKR-ND; Supplier 4: Newark; Supplier Part Number 4: 12M8157; Supplier 5: Mouser; Supplier Part Number 5: 584-ADP3335ACPZ3.3R; Packing: Reel; Mounting Technology: Surface Mount; ComponentLink1Description: Manufacturer URL; ComponentLink1URL: http://www.analog.com/en/index.html; ComponentLink2Description: Datasheet; ComponentLink2URL: http://www.analog.com/static/imported-files/data_sheets/ADP3335.pdf; ComponentLink3Description: Package Specification; ComponentLink3URL: http://www.analog.com/static/imported-files/packages/56953322593982CP_8_2.pdf; ComponentLink4Description: URL Link1; ComponentLink4URL: Product URL:http://www.analog.com/en/ADP3335/productSearch.html
footprint ADI-CP-8-2_N (QFN, 8-Leads, Body 3x3mm, Pitch 0.5mm, Thermal Pad 1.45X1.74mm, IPC Medium Density)
footprint ADI-CP-8-2_L (QFN, 8-Leads, Body 3x3mm, Pitch 0.5mm, Thermal Pad 1.45X1.74mm, IPC High Density)
footprint ADI-CP-8-2_M (QFN, 8-Leads, Body 3x3mm, Pitch 0.5mm, Thermal Pad 1.45X1.74mm, IPC Low Density)
pins: 1 OUT (power) "Output of the Regulator. Bypass to ground with a 1.0 uF or larger capacitor. All pins must be connected together for proper operation.", 2 OUT (power) "Output of the Regulator. Bypass to ground with a 1.0 uF or larger capacitor. All pins must be connected together for proper operation.", 3 OUT (power) "Output of the Regulator. Bypass to ground with a 1.0 uF or larger capacitor. All pins must be connected together for proper operation.", 4 GND (power) "Ground Pin.", 5 NR "Noise Reduction Pin. Used for further reduction of output noise (see the Noise Reduction section for further details).", 6 ~{SD} (in) "Active Low Shutdown Pin. Connect to ground to disable the regulator output. When shutdown is not used, this pin should be connected to the input pin.", 7 IN (power) "Regulator Input. All pins must be connected together for proper operation.", 8 IN (power) "Regulator Input. All pins must be connected together for proper operation.", 9 EP "The exposed pad on the bottom of the LFCSP package enhances thermal performance and is electrically connected to the die substrate, which is electrically common with the input pins, IN (Pin 7 and Pin 8), inside the package."

## ADP3335ACPZ-5-R7
designator U?
High Accuracy, Ultralow IQ, 500 mA, anyCAP Low Dropout Regulator, 2.6 to 12 V Vin, 5 V Vout, Industrial, 8-pin QFN (CP-8-2), Reel; Manufacturer: Analog Devices; PartNumber: ADP3335ACPZ-5-R7; Iout max: 500mA; Preset Vout Values (V): 5; Supply Current IGND @ Small Load: 80uA; Vin (max) (V): 12; Vin (min) (V): 2.6; DatasheetVersion: Rev. C; PackageVersion: 061507-B, 06/2007; PackageReference: CP-8-2; PackageDescription: 8-Pin Lead Frame Chip Scale Package, Body 3 x 3 mm, Pitch 0.5 mm; Supplier 1: Digi-Key; Supplier Part Number 1: ADP3335ACPZ-5-R7TR-ND; Supplier 2: Digi-Key; Supplier Part Number 2: ADP3335ACPZ-5-R7CT-ND; Supplier 3: Digi-Key; Supplier Part Number 3: ADP3335ACPZ-5-R7DKR-ND; Supplier 4: Farnell; Supplier Part Number 4: 2312901; Supplier 5: Newark; Supplier Part Number 5: 61M3998; Supplier 6: Newark; Supplier Part Number 6: 67W2716; Supplier 7: Mouser; Supplier Part Number 7: 584-ADP3335ACPZ-5-R7; Packing: Reel; Mounting Technology: Surface Mount; ComponentLink1Description: Manufacturer URL; ComponentLink1URL: http://www.analog.com/en/index.html; ComponentLink2Description: Datasheet; ComponentLink2URL: http://www.analog.com/static/imported-files/data_sheets/ADP3335.pdf; ComponentLink3Description: Package Specification; ComponentLink3URL: http://www.analog.com/static/imported-files/packages/56953322593982CP_8_2.pdf; ComponentLink4Description: URL Link1; ComponentLink4URL: Product URL:http://www.analog.com/en/ADP3335/productSearch.html
footprint ADI-CP-8-2_N (QFN, 8-Leads, Body 3x3mm, Pitch 0.5mm, Thermal Pad 1.45X1.74mm, IPC Medium Density)
footprint ADI-CP-8-2_L (QFN, 8-Leads, Body 3x3mm, Pitch 0.5mm, Thermal Pad 1.45X1.74mm, IPC High Density)
footprint ADI-CP-8-2_M (QFN, 8-Leads, Body 3x3mm, Pitch 0.5mm, Thermal Pad 1.45X1.74mm, IPC Low Density)
pins: 1 OUT (power) "Output of the Regulator. Bypass to ground with a 1.0 uF or larger capacitor. All pins must be connected together for proper operation.", 2 OUT (power) "Output of the Regulator. Bypass to ground with a 1.0 uF or larger capacitor. All pins must be connected together for proper operation.", 3 OUT (power) "Output of the Regulator. Bypass to ground with a 1.0 uF or larger capacitor. All pins must be connected together for proper operation.", 4 GND (power) "Ground Pin.", 5 NR "Noise Reduction Pin. Used for further reduction of output noise (see the Noise Reduction section for further details).", 6 ~{SD} (in) "Active Low Shutdown Pin. Connect to ground to disable the regulator output. When shutdown is not used, this pin should be connected to the input pin.", 7 IN (power) "Regulator Input. All pins must be connected together for proper operation.", 8 IN (power) "Regulator Input. All pins must be connected together for proper operation.", 9 EP "The exposed pad on the bottom of the LFCSP package enhances thermal performance and is electrically connected to the die substrate, which is electrically common with the input pins, IN (Pin 7 and Pin 8), inside the package."

## ADP3335ARMZ-1.8-R7
designator U?
High Accuracy, Ultralow IQ, 500 mA, anyCAP Low Dropout Regulator, 2.6 to 12 V Vin, 1.8 V Vout, Industrial, 8-pin SOP (RM-8), Reel; Manufacturer: Analog Devices; PartNumber: ADP3335ARMZ-1.8-R7; Iout max: 500mA; Preset Vout Values (V): 1.8; Supply Current IGND @ Small Load: 80uA; Vin (max) (V): 12; Vin (min) (V): 2.6; DatasheetVersion: Rev. C; PackageVersion: Aug-05; PackageReference: RM-8; PackageDescription: 8-Pin Mini Small Outline Package, Body 3 x 3 mm, Pitch 0.65 mm; Supplier 1: Digi-Key; Supplier Part Number 1: ADP3335ARMZ-1.8-R7TR-ND; Supplier 2: Digi-Key; Supplier Part Number 2: ADP3335ARMZ-1.8-R7CT-ND; Supplier 3: Digi-Key; Supplier Part Number 3: ADP3335ARMZ-1.8-R7DKR-ND; Supplier 4: Farnell; Supplier Part Number 4: 2376932; Supplier 5: Newark; Supplier Part Number 5: 23X6034; Supplier 6: Mouser; Supplier Part Number 6: 584-ADP3335ARMZ1.8R7; Packing: Reel; Mounting Technology: Surface Mount; Code_JEDEC: MO-187-AA; ComponentLink1Description: Manufacturer URL; ComponentLink1URL: http://www.analog.com/en/index.html; ComponentLink2Description: Datasheet; ComponentLink2URL: http://www.analog.com/static/imported-files/data_sheets/ADP3335.pdf; ComponentLink3Description: Package Specification; ComponentLink3URL: http://www.analog.com/static/imported-files/packages/PKG_PDF/MSOP%28RM%29/RM_8.pdf; ComponentLink4Description: URL Link1; ComponentLink4URL: Product URL:http://www.analog.com/en/ADP3335/productSearch.html
footprint ADI-RM-8_N (SOP, 8-Leads, Body 3x3mm, Pitch 0.65mm, IPC Medium Density)
footprint ADI-RM-8_L (SOP, 8-Leads, Body 3x3mm, Pitch 0.65mm, IPC High Density)
footprint ADI-RM-8_M (SOP, 8-Leads, Body 3x3mm, Pitch 0.65mm, IPC Low Density)
pins: 1 OUT (power) "Output of the Regulator. Bypass to ground with a 1.0 uF or larger capacitor. All pins must be connected together for proper operation.", 2 OUT (power) "Output of the Regulator. Bypass to ground with a 1.0 uF or larger capacitor. All pins must be connected together for proper operation.", 3 OUT (power) "Output of the Regulator. Bypass to ground with a 1.0 uF or larger capacitor. All pins must be connected together for proper operation.", 4 GND (power) "Ground Pin.", 5 NR "Noise Reduction Pin. Used for further reduction of output noise (see the Noise Reduction section for further details).", 6 ~{SD} (in) "Active Low Shutdown Pin. Connect to ground to disable the regulator output. When shutdown is not used, this pin should be connected to the input pin.", 7 IN (power) "Regulator Input. All pins must be connected together for proper operation.", 8 IN (power) "Regulator Input. All pins must be connected together for proper operation."

## ADP3335ARMZ-1.8-RL
designator U?
High Accuracy, Ultralow IQ, 500 mA, anyCAP Low Dropout Regulator, 2.6 to 12 V Vin, 1.8 V Vout, Industrial, 8-pin SOP (RM-8), Reel; Manufacturer: Analog Devices; PartNumber: ADP3335ARMZ-1.8-RL; Iout max: 500mA; Preset Vout Values (V): 1.8; Supply Current IGND @ Small Load: 80uA; Vin (max) (V): 12; Vin (min) (V): 2.6; DatasheetVersion: Rev. C; PackageVersion: Aug-05; PackageReference: RM-8; PackageDescription: 8-Pin Mini Small Outline Package, Body 3 x 3 mm, Pitch 0.65 mm; Supplier 1: Digi-Key; Supplier Part Number 1: ADP3335ARMZ-1.8-RLTR-ND; Supplier 2: Digi-Key; Supplier Part Number 2: ADP3335ARMZ-1.8-RLCT-ND; Supplier 3: Digi-Key; Supplier Part Number 3: ADP3335ARMZ-1.8-RLDKR-ND; Supplier 4: Mouser; Supplier Part Number 4: 584-ADP3335ARMZ1.8R; Packing: Reel; Mounting Technology: Surface Mount; Code_JEDEC: MO-187-AA; ComponentLink1Description: Manufacturer URL; ComponentLink1URL: http://www.analog.com/en/index.html; ComponentLink2Description: Datasheet; ComponentLink2URL: http://www.analog.com/static/imported-files/data_sheets/ADP3335.pdf; ComponentLink3Description: Package Specification; ComponentLink3URL: http://www.analog.com/static/imported-files/packages/PKG_PDF/MSOP%28RM%29/RM_8.pdf; ComponentLink4Description: URL Link1; ComponentLink4URL: Product URL:http://www.analog.com/en/ADP3335/productSearch.html
footprint ADI-RM-8_N (SOP, 8-Leads, Body 3x3mm, Pitch 0.65mm, IPC Medium Density)
footprint ADI-RM-8_L (SOP, 8-Leads, Body 3x3mm, Pitch 0.65mm, IPC High Density)
footprint ADI-RM-8_M (SOP, 8-Leads, Body 3x3mm, Pitch 0.65mm, IPC Low Density)
pins: 1 OUT (power) "Output of the Regulator. Bypass to ground with a 1.0 uF or larger capacitor. All pins must be connected together for proper operation.", 2 OUT (power) "Output of the Regulator. Bypass to ground with a 1.0 uF or larger capacitor. All pins must be connected together for proper operation.", 3 OUT (power) "Output of the Regulator. Bypass to ground with a 1.0 uF or larger capacitor. All pins must be connected together for proper operation.", 4 GND (power) "Ground Pin.", 5 NR "Noise Reduction Pin. Used for further reduction of output noise (see the Noise Reduction section for further details).", 6 ~{SD} (in) "Active Low Shutdown Pin. Connect to ground to disable the regulator output. When shutdown is not used, this pin should be connected to the input pin.", 7 IN (power) "Regulator Input. All pins must be connected together for proper operation.", 8 IN (power) "Regulator Input. All pins must be connected together for proper operation."

## ADP3335ARMZ-2.5-RL
designator U?
High Accuracy, Ultralow IQ, 500 mA, anyCAP Low Dropout Regulator, 2.6 to 12 V Vin, 2.5 V Vout, Industrial, 8-pin SOP (RM-8), Reel; Manufacturer: Analog Devices; PartNumber: ADP3335ARMZ-2.5-RL; Iout max: 500mA; Preset Vout Values (V): 2.5; Supply Current IGND @ Small Load: 80uA; Vin (max) (V): 12; Vin (min) (V): 2.6; DatasheetVersion: Rev. C; PackageVersion: Aug-05; PackageReference: RM-8; PackageDescription: 8-Pin Mini Small Outline Package, Body 3 x 3 mm, Pitch 0.65 mm; Supplier 1: Digi-Key; Supplier Part Number 1: ADP3335ARMZ-2.5-RLTR-ND; Supplier 2: Digi-Key; Supplier Part Number 2: ADP3335ARMZ-2.5-RLCT-ND; Supplier 3: Digi-Key; Supplier Part Number 3: ADP3335ARMZ-2.5-RLDKR-ND; Supplier 4: Newark; Supplier Part Number 4: 59K2605; Supplier 5: Mouser; Supplier Part Number 5: 584-ADP3335ARMZ2.5R; Packing: Reel; Mounting Technology: Surface Mount; Code_JEDEC: MO-187-AA; ComponentLink1Description: Manufacturer URL; ComponentLink1URL: http://www.analog.com/en/index.html; ComponentLink2Description: Datasheet; ComponentLink2URL: http://www.analog.com/static/imported-files/data_sheets/ADP3335.pdf; ComponentLink3Description: Package Specification; ComponentLink3URL: http://www.analog.com/static/imported-files/packages/PKG_PDF/MSOP%28RM%29/RM_8.pdf; ComponentLink4Description: URL Link1; ComponentLink4URL: Product URL:http://www.analog.com/en/ADP3335/productSearch.html
footprint ADI-RM-8_N (SOP, 8-Leads, Body 3x3mm, Pitch 0.65mm, IPC Medium Density)
footprint ADI-RM-8_L (SOP, 8-Leads, Body 3x3mm, Pitch 0.65mm, IPC High Density)
footprint ADI-RM-8_M (SOP, 8-Leads, Body 3x3mm, Pitch 0.65mm, IPC Low Density)
pins: 1 OUT (power) "Output of the Regulator. Bypass to ground with a 1.0 uF or larger capacitor. All pins must be connected together for proper operation.", 2 OUT (power) "Output of the Regulator. Bypass to ground with a 1.0 uF or larger capacitor. All pins must be connected together for proper operation.", 3 OUT (power) "Output of the Regulator. Bypass to ground with a 1.0 uF or larger capacitor. All pins must be connected together for proper operation.", 4 GND (power) "Ground Pin.", 5 NR "Noise Reduction Pin. Used for further reduction of output noise (see the Noise Reduction section for further details).", 6 ~{SD} (in) "Active Low Shutdown Pin. Connect to ground to disable the regulator output. When shutdown is not used, this pin should be connected to the input pin.", 7 IN (power) "Regulator Input. All pins must be connected together for proper operation.", 8 IN (power) "Regulator Input. All pins must be connected together for proper operation."